# Altium footprint library EitLib.PcbLib: 29 footprints (part 1 of 2)
Each footprint in its own frame and in the unit in brackets; x right, y up, seen from the top. Pads: shape width x height; smd on the part's side, far side on the other; paste and mask are expansions set on the pad; w line width, h text height; cw(c..) or ccw(c..) is an arc to the next point about the centre after c.
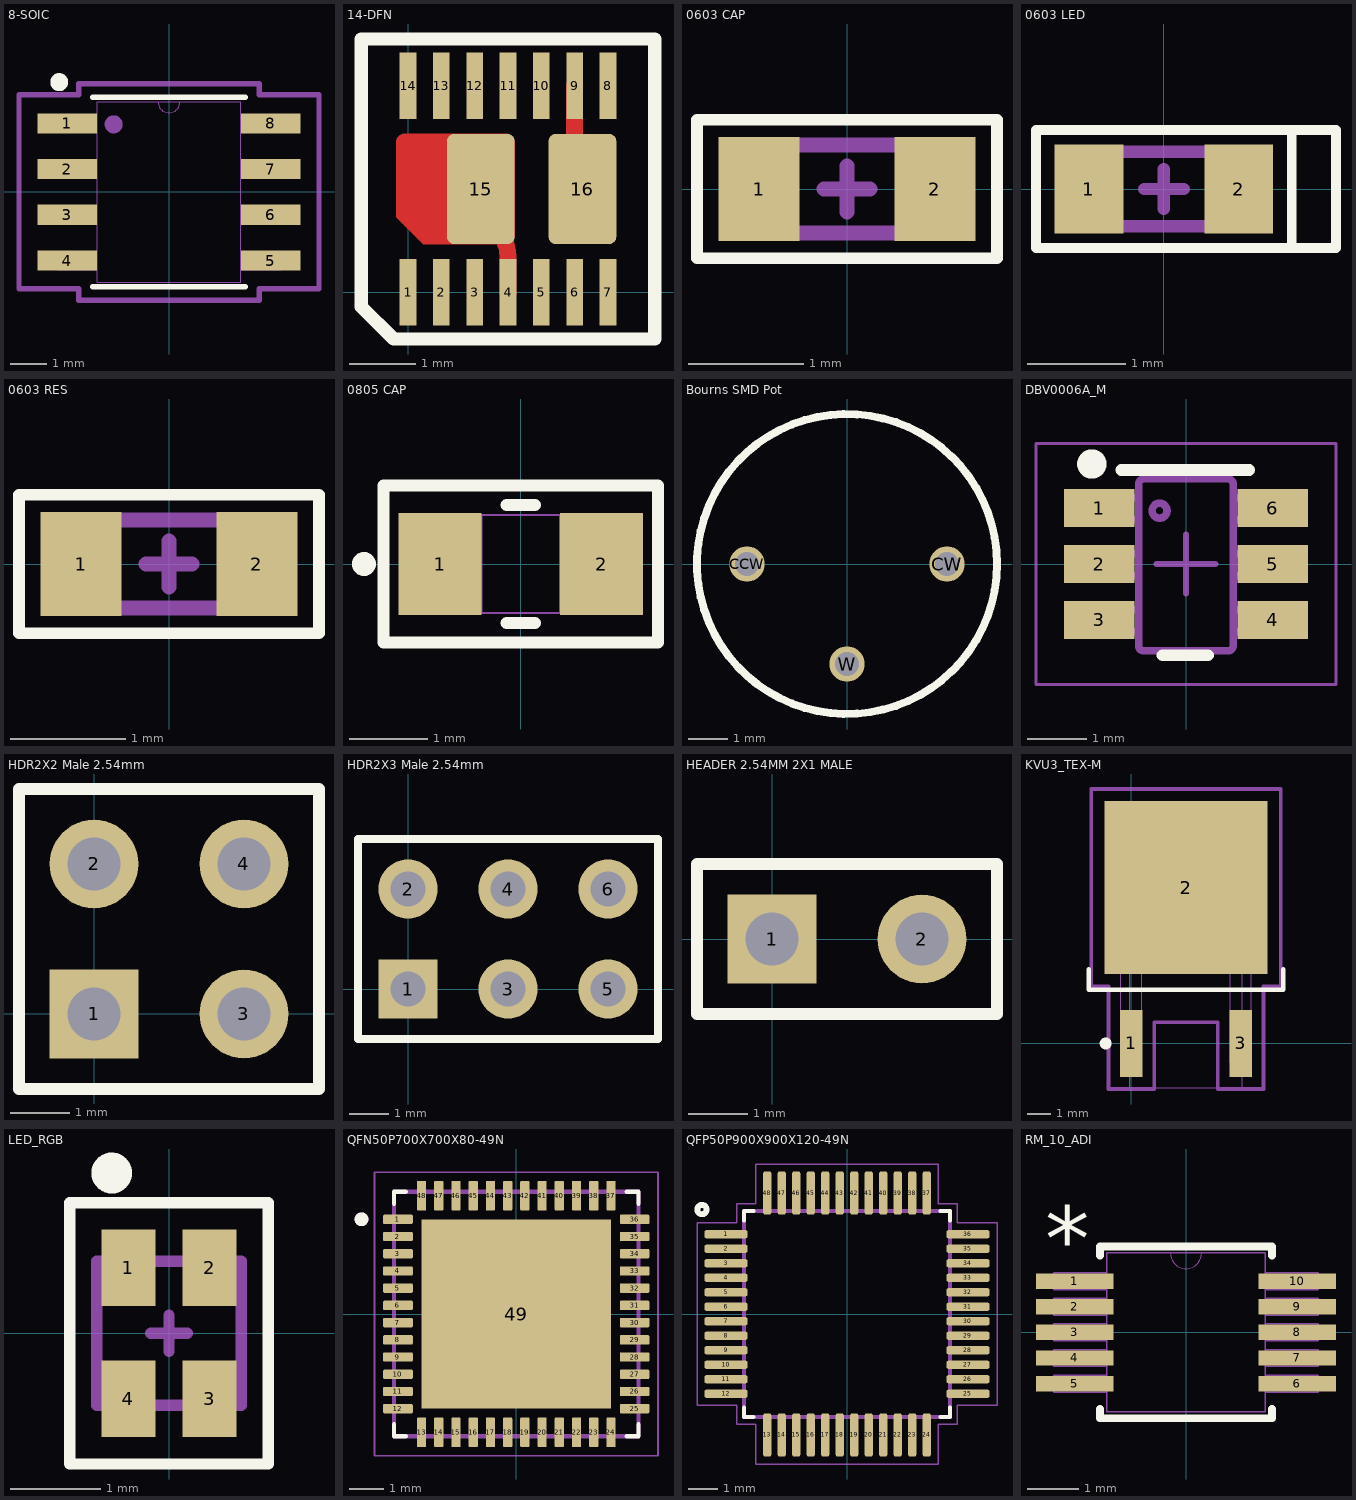
[diagram p0: the footprints below, top view; thin cyan lines are the x and y axes]

## 8-SOIC [mil]
pads (8):
  rect 65.5x22 smd paste+0 mask+0: 1(-111.25,75) 2(-111.25,25) 3(-111.25,-25) 4(-111.25,-75) 5(111.25,-75) 6(111.25,-25) 7(111.25,25) 8(111.25,75)
Top Overlay:
  circle w9.84: c-120,120 r4.92
  lines w6: -83.5,-103.5 83.5,-103.5 ; -83.5,103.5 83.5,103.5
Mechanical 13:
  circle w9.84: c-60.44,73.94 r4.92
  lines w0: -12,98.5 ccw(c0,98.5) 12,98.5
  lines w1: -122,-85 -78.5,-85 -78.5,-65 -122,-65 -122,-85 ; -122,-35 -78.5,-35 -78.5,-15 -122,-15 -122,-35 ; -122,15 -78.5,15 -78.5,35 -122,35 -122,15 ; -122,65 -78.5,65 -78.5,85 -122,85 -122,65 ; -78.5,-98.5 -78.5,98.5 78.5,98.5 78.5,-98.5 -78.5,-98.5 ; 78.5,-85 122,-85 122,-65 78.5,-65 78.5,-85 ; 78.5,-35 122,-35 122,-15 78.5,-15 78.5,-35 ; 78.5,15 122,15 122,35 78.5,35 78.5,15 ; 78.5,65 122,65 122,85 78.5,85 78.5,65
Mechanical 15:
  lines w6: -164,-106 -98.5,-106 -98.5,-118.5 98.5,-118.5 98.5,-106 164,-106 164,106 98.5,106 98.5,118.5 -98.5,118.5 -98.5,106 -164,106 -164,-106
3D body: height 10, standoff 0, extent 0,0 10,10

## 14-DFN [mm]
pads (16):
  rect 0.25x1 smd mask+0: 1(0,0) 2(0.5,0) 3(1,0) 4(1.5,0) 5(2,0) 6(2.5,0) 7(3,0) 8(3,3.1) 9(2.5,3.1) 10(2,3.1) 11(1.5,3.1) 12(1,3.1) 13(0.5,3.1) 14(0,3.1)
  rrect20% 1.016x1.651 smd paste+0 mask+0: 15(1.092,1.549)
  rrect20% 1.016x1.651 smd mask+0: 16(2.616,1.549)
Top Layer:
  region: 1.473,2.375 1.498,2.375 1.545,2.356 1.581,2.32 1.6,2.274 1.6,2.248 1.6,0.851 1.6,0.826 1.581,0.78 1.545,0.744 1.498,0.724 1.473,0.724 0.225,0.724 -0.178,1.128 -0.178,2.248 -0.178,2.274 -0.159,2.32 -0.123,2.356 -0.076,2.375 -0.051,2.375
  lines w0.254: 1.325,0.95 cw(c0.903,0.528) 1.5,0.528 1.5,0 ; 2.5,2.2 2.5,3.1
Top Overlay:
  lines w0.2: -0.7,-0.217 -0.7,3.8 3.7,3.8 3.7,-0.7 0.5,-0.7 -0.217,-0.7 -0.7,-0.217
3D body "User Library-DFN-14.STEP": height 0.75, standoff 0, extent -0.5,0.05 3.5,3.05

## 0603 CAP [mm]
pads (2):
  rect 0.7x0.9 smd paste-0.013 mask+0.051: 1(-0.762,0) 2(0.762,0)
Top Overlay:
  lines w0.1: -1.3,-0.6 -1.3,0.6 1.3,0.6 1.3,-0.6 -1.3,-0.6
Mechanical 2:
  lines w0.127: -0.2,0 0.2,0 ; 0,-0.2 0,0.2 ; -0.762,-0.381 0.762,-0.381 0.762,0.381 -0.762,0.381 -0.762,-0.381
3D body "SMD Capacitor 0603.step": height 0.8, standoff 0, extent -0.8,-0.4 0.8,0.4

## 0603 LED [mm]
pads (2):
  rect 0.7x0.9 smd paste-0.013 mask+0.051: 1(-0.762,0) 2(0.762,0)
Top Overlay:
  lines w0.1: 1.3,-0.6 1.3,0.6 ; 1.3,-0.6 -1.3,-0.6 -1.3,0.6 1.3,0.6 ; 1.3,-0.6 1.75,-0.6 1.75,0.6 1.3,0.6
Mechanical 2:
  lines w0.127: -0.2,0 0.2,0 ; 0,-0.2 0,0.2 ; -0.762,-0.381 -0.762,0.381 0.762,0.381 0.762,-0.381 -0.762,-0.381

## 0603 RES [mm]
pads (2):
  rect 0.7x0.9 smd paste-0.013 mask+0.051: 1(-0.762,0) 2(0.762,0)
Top Overlay:
  lines w0.1: -1.3,-0.6 1.3,-0.6 1.3,0.6 -1.3,0.6 -1.3,-0.6
Mechanical 2:
  lines w0.127: -0.2,0 0.2,0 ; 0,-0.2 0,0.2 ; -0.762,-0.381 -0.762,0.381 0.762,0.381 0.762,-0.381 -0.762,-0.381
3D body "SMD Resistor 0603.step": height 0.45, standoff -0.01, extent -0.8,-0.4 0.8,0.4

## 0805 CAP [mil]
pads (2):
  rect 41.69x51.21 smd paste+0 mask+0: 1(-40.53,0) 2(40.53,0)
Top Overlay:
  circle w6: c-78.74,0 r3
  lines w6: -7.21,-29.61 7.21,-29.61 ; -7.21,29.61 7.21,29.61 ; -68.9,-39.37 -68.9,39.37 68.9,39.37 68.9,-39.37 -68.9,-39.37
Mechanical 13:
  circle w0: c-35.53,0 r3
  lines w1: -39.37,-24.61 -39.37,24.61 ; -39.37,-24.61 -19.68,-24.61 -19.68,24.61 -39.37,24.61 ; -39.37,-24.61 39.37,-24.61 ; -39.37,-24.61 -39.37,24.61 ; -39.37,24.61 39.37,24.61 ; 39.37,-24.61 19.68,-24.61 19.68,24.61 39.37,24.61 ; 39.37,-24.61 39.37,24.61 ; 39.37,-24.61 39.37,24.61
3D body: height 10, standoff 0, extent 0,0 10,10
3D body "CAP_CL21_SAM.step": height 53.15, standoff 0, extent -39.37,-24.6 39.37,24.6

## Bourns SMD Pot [mm]
pads (3):
  round 0.9 hole 0.6 paste+0 mask+0: CCW(-2.54,0) CW(2.54,0) W(0,-2.54)
Top Overlay:
  circle w0.2: c0,0 r3.81

## DBV0006A_M [mm]
pads (6):
  rect 1.2x0.65 smd paste+0 mask+0.051: 1(-1.475,0.95) 2(-1.475,0) 3(-1.475,-0.95) 4(1.475,-0.95) 5(1.475,0) 6(1.475,0.95)
Top Overlay:
  circle w0.25: c-1.6,1.7 r0.125
  lines w0.2: -1.1,1.6 1.075,1.6 ; -0.4,-1.55 0.375,-1.55
Mechanical 13:
  lines w0.127: 0.724,-1.475 ccw(c0.723,-1.399) 0.8,-1.399 0.8,1.37 ccw(c0.723,1.37) 0.724,1.446 ; 0.723,-1.475 -0.724,-1.475 -0.725,-1.475 cw(c-0.724,-1.399) -0.801,-1.399 -0.801,1.37 cw(c-0.724,1.37) -0.725,1.446 -0.724,1.446 0.723,1.446 ; 0.723,-1.475 0.724,-1.475 ; 0.723,1.446 0.724,1.446 ; -1.423,-1.154 -1.423,-0.78 -1.206,-0.78 -1.113,-0.78 -1.081,-0.78 -0.828,-0.78 -0.801,-0.78 -0.801,-1.154 -0.828,-1.154 -1.081,-1.154 -1.113,-1.154 -1.206,-1.154 -1.423,-1.154 ; -1.423,-0.202 -1.423,0.173 -1.206,0.173 -1.113,0.173 -1.081,0.173 -0.828,0.173 -0.801,0.173 -0.801,-0.202 -0.828,-0.202 -1.081,-0.202 -1.113,-0.202 -1.206,-0.202 -1.423,-0.202 ; -1.423,0.751 -1.423,1.125 -1.206,1.125 -1.113,1.125 -1.081,1.125 -0.828,1.125 -0.801,1.125 -0.801,0.751 -0.828,0.751 -1.081,0.751 -1.113,0.751 -1.206,0.751 -1.423,0.751 ; -0.577,0.906 ccw(c-0.45,0.906) -0.323,0.906 ccw(c-0.45,0.906) -0.577,0.906 ; 0.8,-1.154 0.8,-0.78 0.827,-0.78 1.08,-0.78 1.112,-0.78 1.205,-0.78 1.422,-0.78 1.422,-1.154 1.205,-1.154 1.112,-1.154 1.08,-1.154 0.827,-1.154 0.8,-1.154 ; 0.8,-0.202 0.8,0.173 0.827,0.173 1.08,0.173 1.112,0.173 1.205,0.173 1.422,0.173 1.422,-0.202 1.205,-0.202 1.112,-0.202 1.08,-0.202 0.827,-0.202 0.8,-0.202 ; 0.8,0.751 0.8,1.125 0.827,1.125 1.08,1.125 1.112,1.125 1.205,1.125 1.422,1.125 1.422,0.751 1.205,0.751 1.112,0.751 1.08,0.751 0.827,0.751 0.8,0.751
Mechanical 15:
  lines w0.05: -2.55,-2.05 -2.55,2.05 2.55,2.05 2.55,-2.05 -2.55,-2.05
  lines w0.1: -0.5,0 0.5,0 ; 0,-0.5 0,0.5

## HDR2X2 Male 2.54mm [mm] "Connector; Header; 2x2 Position"
pads (4):
  rect 1.5x1.5 hole 0.9: 1(0,0)
  round 1.5 hole 0.9: 2(0,2.54) 3(2.54,0) 4(2.54,2.54)
Top Overlay:
  lines w0.2: -1.27,-1.27 -1.27,3.81 3.81,3.81 3.81,-1.27 -1.27,-1.27

## HDR2X3 Male 2.54mm [mm] "Connector; Header; 3x2 Position"
pads (6):
  rect 1.5x1.5 hole 0.9: 1(0,0)
  round 1.5 hole 0.9: 2(0,2.54) 3(2.54,0) 4(2.54,2.54) 5(5.08,0) 6(5.08,2.54)
Top Overlay:
  lines w0.2: 1.482,-1.27 6.35,-1.27 ; 6.35,-1.27 -1.27,-1.27 -1.27,3.81 6.35,3.81 6.35,-1.27

## HEADER 2.54MM 2X1 MALE [mm] "Connector; Header; 2 Position"
pads (2):
  rect 1.5x1.5 hole 0.9: 1(0,0)
  round 1.5 hole 0.9: 2(2.54,0)
Top Overlay:
  lines w0.2: -1.27,-1.27 3.81,-1.27 3.81,1.27 -1.27,1.27 -1.27,-1.27
3D body "User Library-HEADER 2x1 Pitch 2_54x2_54.SLDPRT": height 8.41, standoff -2.89, extent -1.25,-1.265 3.83,1.275

## KVU3_TEX-M [mil]
pads (3):
  rect 37x110 smd: 1(0,0) 3(180,0)
  rect 268x285 smd: 2(90,256.5)
Top Overlay:
  circle w9.84: c-42.32,0 r4.92
  lines w7.87: -70,122.05 -70,88.58 250,88.58 250,122.05
Mechanical 13:
  lines w1: -2.5,132 -2.5,-73 182.5,-73 182.5,132 ; -42,132 -42,377 222,377 222,132 -42,132 ; -17.5,-33 17.5,-33 17.5,132 -17.5,132 -17.5,-33 ; 162.5,-33 197.5,-33 197.5,132 162.5,132 162.5,-33
  text "*" at -12.5,117 h50
Mechanical 15:
  lines w6: -66,94 -37.5,94 -37.5,-75 37.5,-75 37.5,35 142.5,35 142.5,-75 217.5,-75 217.5,94 246,94 246,419 -66,419 -66,94
3D body: height 10, standoff 0, extent 90,254.5 100,264.5

## LED_RGB [mm]
height 0.35
pads (4):
  rect 0.6x0.85 smd: 1(-0.45,0.725) 2(0.45,0.725) 3(0.45,-0.725) 4(-0.45,-0.725)
Top Overlay:
  circle w0.254: c-0.635,1.778 r0.1
  lines w0.127: -1.1,-1.45 1.1,-1.45 1.1,1.45 -1.1,1.45 -1.1,-1.45
Top Solder:
  rectangle: -0.076,-1.27 0.077,-0.203
  rectangle: -0.076,0.203 0.077,1.27
Mechanical 2:
  lines w0.127: -0.2,0 0.2,0 ; 0,-0.2 0,0.2 ; -0.8,-0.8 0.8,-0.8 0.8,0.8 -0.8,0.8 -0.8,-0.8
3D body: height 0.35, standoff 0.18, extent -0.8,-0.575 0.8,0.575
3D body: height 0.18, standoff 0, extent -0.8,-0.8 0.8,0.8

## QFN50P700X700X80-49N [mm]
pads (49):
  rrect25% 0.86x0.27 smd mask+0: 1(-3.435,2.75) 2(-3.435,2.25) 3(-3.435,1.75) 4(-3.435,1.25) 5(-3.435,0.75) 6(-3.435,0.25) 7(-3.435,-0.25) 8(-3.435,-0.75) 9(-3.435,-1.25) 10(-3.435,-1.75) 11(-3.435,-2.25) 12(-3.435,-2.75) 25(3.435,-2.75) 26(3.435,-2.25) 27(3.435,-1.75) 28(3.435,-1.25) 29(3.435,-0.75) 30(3.435,-0.25) 31(3.435,0.25) 32(3.435,0.75) 33(3.435,1.25) 34(3.435,1.75) 35(3.435,2.25) 36(3.435,2.75)
  rrect25% 0.27x0.86 smd mask+0: 13(-2.75,-3.435) 14(-2.25,-3.435) 15(-1.75,-3.435) 16(-1.25,-3.435) 17(-0.75,-3.435) 18(-0.25,-3.435) 19(0.25,-3.435) 20(0.75,-3.435) 21(1.25,-3.435) 22(1.75,-3.435) 23(2.25,-3.435) 24(2.75,-3.435) 37(2.75,3.435) 38(2.25,3.435) 39(1.75,3.435) 40(1.25,3.435) 41(0.75,3.435) 42(0.25,3.435) 43(-0.25,3.435) 44(-0.75,3.435) 45(-1.25,3.435) 46(-1.75,3.435) 47(-2.25,3.435) 48(-2.75,3.435)
  rect 5.5x5.5 smd paste-4 mask+0: 49(0,0)
Top Overlay:
  circle w0.2: c-4.495,2.75 r0.1
  lines w0.127: -3.55,-3.205 -3.55,-3.55 -3.205,-3.55 ; -3.55,3.205 -3.55,3.55 -3.205,3.55 ; 3.205,-3.55 3.55,-3.55 3.55,-3.205 ; 3.205,3.55 3.55,3.55 3.55,3.205
Top Paste:
  region: 2.245,-2.245 0.505,-2.245 0.505,-0.505 2.245,-0.505
  region: -0.505,-2.245 -2.245,-2.245 -2.245,-0.505 -0.505,-0.505
  region: 2.245,0.505 0.505,0.505 0.505,2.245 2.245,2.245
  region: -0.505,0.505 -2.245,0.505 -2.245,2.245 -0.505,2.245
Mechanical 13:
  circle w0.2: c-4.495,2.75 r0.1
  lines w0.127: -3.55,-3.55 -3.55,3.55 3.55,3.55 3.55,-3.55 -3.55,-3.55
Mechanical 15:
  lines w0.05: -4.115,-4.115 -4.115,4.115 4.115,4.115 4.115,-4.115 -4.115,-4.115

## QFP50P900X900X120-49N [mm]
pads (48):
  rrect50% 1.49x0.28 smd mask+0: 1(-4.17,2.75) 2(-4.17,2.25) 3(-4.17,1.75) 4(-4.17,1.25) 5(-4.17,0.75) 6(-4.17,0.25) 7(-4.17,-0.25) 8(-4.17,-0.75) 9(-4.17,-1.25) 10(-4.17,-1.75) 11(-4.17,-2.25) 12(-4.17,-2.75) 25(4.17,-2.75) 26(4.17,-2.25) 27(4.17,-1.75) 28(4.17,-1.25) 29(4.17,-0.75) 30(4.17,-0.25) 31(4.17,0.25) 32(4.17,0.75) 33(4.17,1.25) 34(4.17,1.75) 35(4.17,2.25) 36(4.17,2.75)
  rrect50% 0.28x1.49 smd mask+0: 13(-2.75,-4.17) 14(-2.25,-4.17) 15(-1.75,-4.17) 16(-1.25,-4.17) 17(-0.75,-4.17) 18(-0.25,-4.17) 19(0.25,-4.17) 20(0.75,-4.17) 21(1.25,-4.17) 22(1.75,-4.17) 23(2.25,-4.17) 24(2.75,-4.17) 37(2.75,4.17) 38(2.25,4.17) 39(1.75,4.17) 40(1.25,4.17) 41(0.75,4.17) 42(0.25,4.17) 43(-0.25,4.17) 44(-0.75,4.17) 45(-1.25,4.17) 46(-1.75,4.17) 47(-2.25,4.17) 48(-2.75,4.17)
Top Overlay:
  circle w0.2: c-5,3.6 r0.16
  lines w0.127: -3.55,3.226 -3.55,3.55 -3.226,3.55 ; 3.226,-3.55 3.55,-3.55 3.55,-3.226 ; 3.226,3.55 3.55,3.55 3.55,3.226
  lines w0.152: -3.55,-3.226 -3.55,-3.55 -3.226,-3.55
Mechanical 13:
  lines w0.127: -3.55,-3.55 -3.55,3.55 3.55,3.55 3.55,-3.55 -3.55,-3.55
Mechanical 15:
  lines w0.05: -5.17,-3.14 -3.8,-3.14 -3.8,-3.8 -3.14,-3.8 -3.14,-5.17 3.14,-5.17 3.14,-3.8 3.8,-3.8 3.8,-3.14 5.17,-3.14 5.17,3.14 3.8,3.14 3.8,3.8 3.14,3.8 3.14,5.17 -3.14,5.17 -3.14,3.8 -3.8,3.8 -3.8,3.14 -5.17,3.14 -5.17,-3.14

## RM_10_ADI [mm]
pads (10):
  rect 1.513x0.3 smd paste+0 mask+0: 1(-2.172,1) 2(-2.172,0.5) 3(-2.172,0) 4(-2.172,-0.5) 5(-2.172,-1) 6(2.172,-1) 7(2.172,-0.5) 8(2.172,0) 9(2.172,0.5) 10(2.172,1)
Top Overlay:
  lines w0.152: -1.676,-1.498 -1.676,-1.676 1.676,-1.676 1.676,-1.498 ; -1.676,1.498 -1.676,1.676 1.676,1.676 1.676,1.498
  text "*" at -2.743,1.203 h1.27
Mechanical 13:
  lines w0: -0.305,1.549 ccw(c0,1.549) 0.305,1.549
  lines w0.025: -2.578,-1.165 -1.549,-1.165 -1.549,-0.835 -2.578,-0.835 -2.578,-1.165 ; -2.578,-0.665 -1.549,-0.665 -1.549,-0.335 -2.578,-0.335 -2.578,-0.665 ; -2.578,-0.165 -1.549,-0.165 -1.549,0.165 -2.578,0.165 -2.578,-0.165 ; -2.578,0.335 -1.549,0.335 -1.549,0.665 -2.578,0.665 -2.578,0.335 ; -2.578,0.835 -1.549,0.835 -1.549,1.165 -2.578,1.165 -2.578,0.835 ; -1.549,-1.549 -1.549,1.549 1.549,1.549 1.549,-1.549 -1.549,-1.549 ; 1.549,-1.165 2.578,-1.165 2.578,-0.835 1.549,-0.835 1.549,-1.165 ; 1.549,-0.665 2.578,-0.665 2.578,-0.335 1.549,-0.335 1.549,-0.665 ; 1.549,-0.165 2.578,-0.165 2.578,0.165 1.549,0.165 1.549,-0.165 ; 1.549,0.335 2.578,0.335 2.578,0.665 1.549,0.665 1.549,0.335 ; 1.549,0.835 2.578,0.835 2.578,1.165 1.549,1.165 1.549,0.835
  text "*" at -1.486,0.203 h1.27
3D body: height 0.25, standoff 0, extent 0,0 0.254,0.254